# EAGLE library part 62102421921 (library Wuerth_Elektronik_eiCan_Pin_&_Socked_Headers_v1.3)
WR-PHD 2.00mm Dual SMT Pin Header, 20 Pins
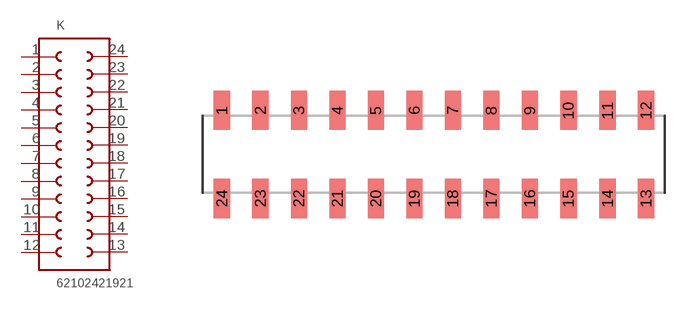
[diagram p285: symbol with the pads of 62102421921; footprint 62102421921]

Designator prefix K

## 62102421921  [62102421921]
1  1  pas
2  2  pas
3  3  pas
4  4  pas
5  5  pas
6  6  pas
7  7  pas
8  8  pas
9  9  pas
10  10  pas
11  11  pas
12  12  pas
13  13  pas
14  14  pas
15  15  pas
16  16  pas
17  17  pas
18  18  pas
19  19  pas
20  20  pas
21  21  pas
22  22  pas
23  23  pas
24  24  pas

## Footprint 62102421921 (pad centres in mm)
WR-PHD 2.00mm Dual SMT Pin Header, 24 Pins
smd 0.85 x 2.03: 1 -10.27,2.285; 2 -8.27,2.285; 3 -6.27,2.285; 4 -4.27,2.285; 5 -2.27,2.285; 6 -0.27,2.285; 7 1.73,2.285; 8 3.73,2.285; 9 5.73,2.285; 10 7.73,2.285; 11 9.77,2.285; 12 11.77,2.285; 13 11.77,-2.285; 14 9.77,-2.285; 15 7.73,-2.285; 16 5.73,-2.285; 17 3.73,-2.285; 18 1.73,-2.285; 19 -0.27,-2.285; 20 -2.27,-2.285; 21 -4.27,-2.285; 22 -6.27,-2.285; 23 -8.27,-2.285; 24 -10.27,-2.285